# Altium schematic symbol library ADSP-BF533.SchLib: 1 symbol
Pins are listed as number, name and electrical type; pins without a type are passive.

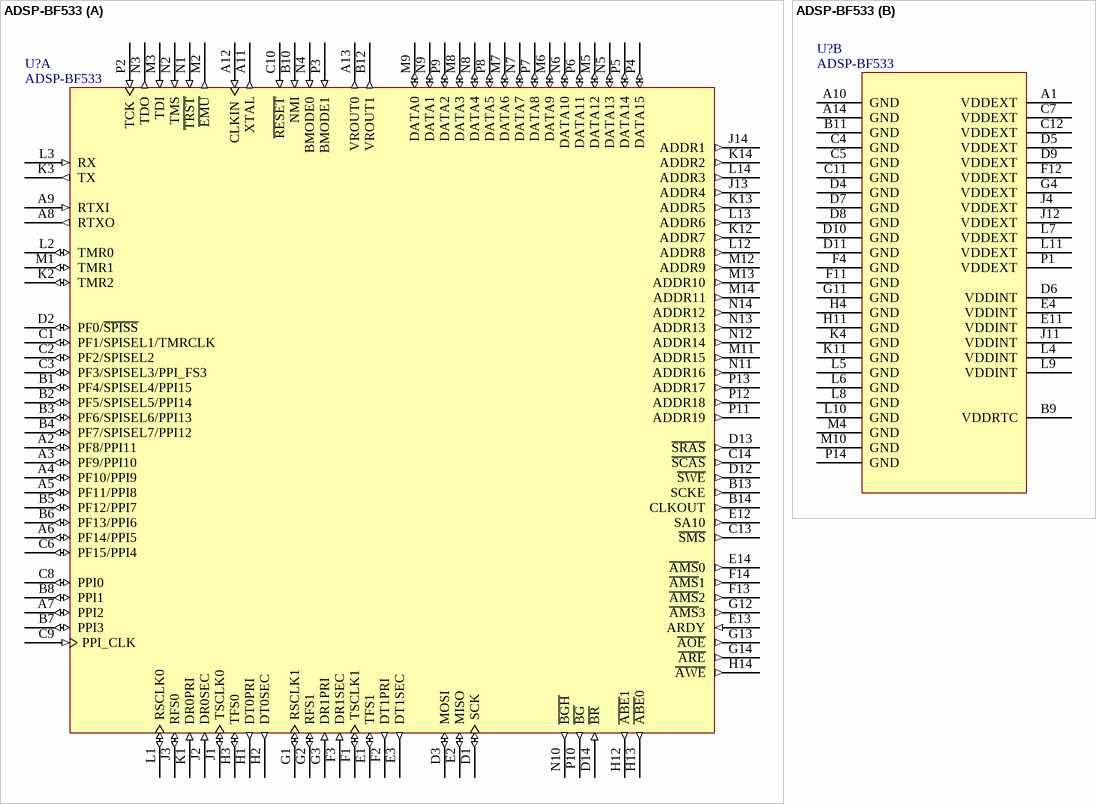
[diagram p0: symbol ADSP-BF533]

## ADSP-BF533
designator U?
part A pins: A2 PF8/PPI11 (io), A3 PF9/PPI10 (io), A4 PF10/PPI9 (io), A5 PF11/PPI8 (io), A6 PF14/PPI5 (io), A7 PPI2 (io), A8 RTXO (out), A9 RTXI (in), A11 XTAL (out), A12 CLKIN (in), A13 VROUT0 (out), B1 PF4/SPISEL4/PPI15 (io), B2 PF5/SPISEL5/PPI14 (io), B3 PF6/SPISEL6/PPI13 (io), B4 PF7/SPISEL7/PPI12 (io), B5 PF12/PPI7 (io), B6 PF13/PPI6 (io), B7 PPI3 (io), B8 PPI1 (io), B10 NMI (in), B12 VROUT1 (out), B13 SCKE (out), B14 CLKOUT (out), C1 PF1/SPISEL1/TMRCLK (io), C2 PF2/SPISEL2 (io), C3 PF3/SPISEL3/PPI_FS3 (io), C6 PF15/PPI4 (io), C8 PPI0 (io), C9 PPI_CLK (in), C10 ~{RESET} (in), C13 ~{SMS} (out), C14 ~{SCAS} (out), D1 SCK (io), D2 PF0/~{SPISS} (io), D3 MOSI (io), D12 ~{SWE} (out), D13 ~{SRAS} (out), D14 ~{BR} (in), E1 TFS1 (io), E2 MISO (io), E3 DT1SEC (out), E12 SA10 (out), E13 ARDY (in), E14 ~{AMS}0 (out), F1 TSCLK1 (io), F2 DT1PRI (out), F3 DR1SEC (in), F13 ~{AMS}2 (out), F14 ~{AMS}1 (out), G1 RSCLK1 (io), G2 RFS1 (io), G3 DR1PRI (in), G12 ~{AMS}3 (out), G13 ~{AOE} (out), G14 ~{ARE} (out), H1 DT0PRI (out), H2 DT0SEC (out), H3 TFS0 (io), H12 ~{ABE}1 (out), H13 ~{ABE}0 (out), H14 ~{AWE} (out), J1 TSCLK0 (io), J2 DR0SEC (in), J3 RFS0 (io), J13 ADDR4 (out), J14 ADDR1 (out), K1 DR0PRI (in), K2 TMR2 (io), K3 TX (out), K12 ADDR7 (out), K13 ADDR5 (out), K14 ADDR2 (out), L1 RSCLK0 (io), L2 TMR0 (io), L3 RX (in), L12 ADDR8 (out), L13 ADDR6 (out), L14 ADDR3 (out), M1 TMR1 (io), M2 ~{EMU} (out), M3 TDI (in), M5 DATA12 (io), M6 DATA9 (io), M7 DATA6 (io), M8 DATA3 (io), M9 DATA0 (io), M11 ADDR15 (out), M12 ADDR9 (out), M13 ADDR10 (out), M14 ADDR11 (out), N1 ~{TRST} (in), N2 TMS (in), N3 TDO (out), N4 BMODE0 (in), N5 DATA13 (io), N6 DATA10 (io), N7 DATA7 (io), N8 DATA4 (io), N9 DATA1 (io), N10 ~{BGH} (out), N11 ADDR16 (out), N12 ADDR14 (out), N13 ADDR13 (out), N14 ADDR12 (out), P2 TCK (in), P3 BMODE1 (in), P4 DATA15 (io), P5 DATA14 (io), P6 DATA11 (io), P7 DATA8 (io), P8 DATA5 (io), P9 DATA2 (io), P10 ~{BG} (out), P11 ADDR19 (out), P12 ADDR18 (out), P13 ADDR17 (out)
part B pins: A1 VDDEXT (power), A10 GND (power), A14 GND (power), B9 VDDRTC (power), B11 GND (power), C4 GND (power), C5 GND (power), C7 VDDEXT (power), C11 GND (power), C12 VDDEXT (power), D4 GND (power), D5 VDDEXT (power), D6 VDDINT (power), D7 GND (power), D8 GND (power), D9 VDDEXT (power), D10 GND (power), D11 GND (power), E4 VDDINT (power), E11 VDDINT (power), F4 GND (power), F11 GND (power), F12 VDDEXT (power), G4 VDDEXT (power), G11 GND (power), H4 GND (power), H11 GND (power), J4 VDDEXT (power), J11 VDDINT (power), J12 VDDEXT (power), K4 GND (power), K11 GND (power), L4 VDDINT (power), L5 GND (power), L6 GND (power), L7 VDDEXT (power), L8 GND (power), L9 VDDINT (power), L10 GND (power), L11 VDDEXT (power), M4 GND (power), M10 GND (power), P1 VDDEXT (power), P14 GND (power)